# EAGLE library part FTDI-DTR (library Coert Vonk (backup))
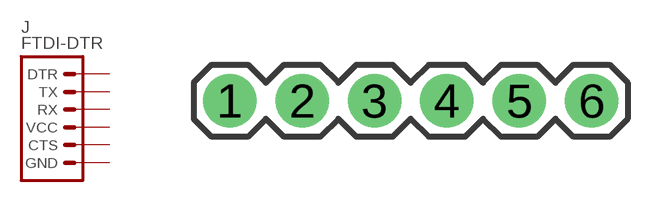
[diagram p11: symbol with the pads of 1X06; footprint 1X06]

Designator prefix J

## FTDI-DTR  [1X06]
1  DTR  out
2  TX  out
3  RX  in
4  VCC  pwr
5  CTS  in
6  GND  pwr

## Footprint 1X06 (pad centres in mm)
drill 1.016 pad 1.88: 1 0,0; 2 2.54,0; 3 5.08,0; 4 7.62,0; 5 10.16,0; 6 12.7,0